# Altium footprint library esp8266.PcbLib: 12 footprints
Each footprint in its own frame and in the unit in brackets; x right, y up, seen from the top. Pads: shape width x height; smd on the part's side, far side on the other; paste and mask are expansions set on the pad; w line width, h text height; cw(c..) or ccw(c..) is an arc to the next point about the centre after c.
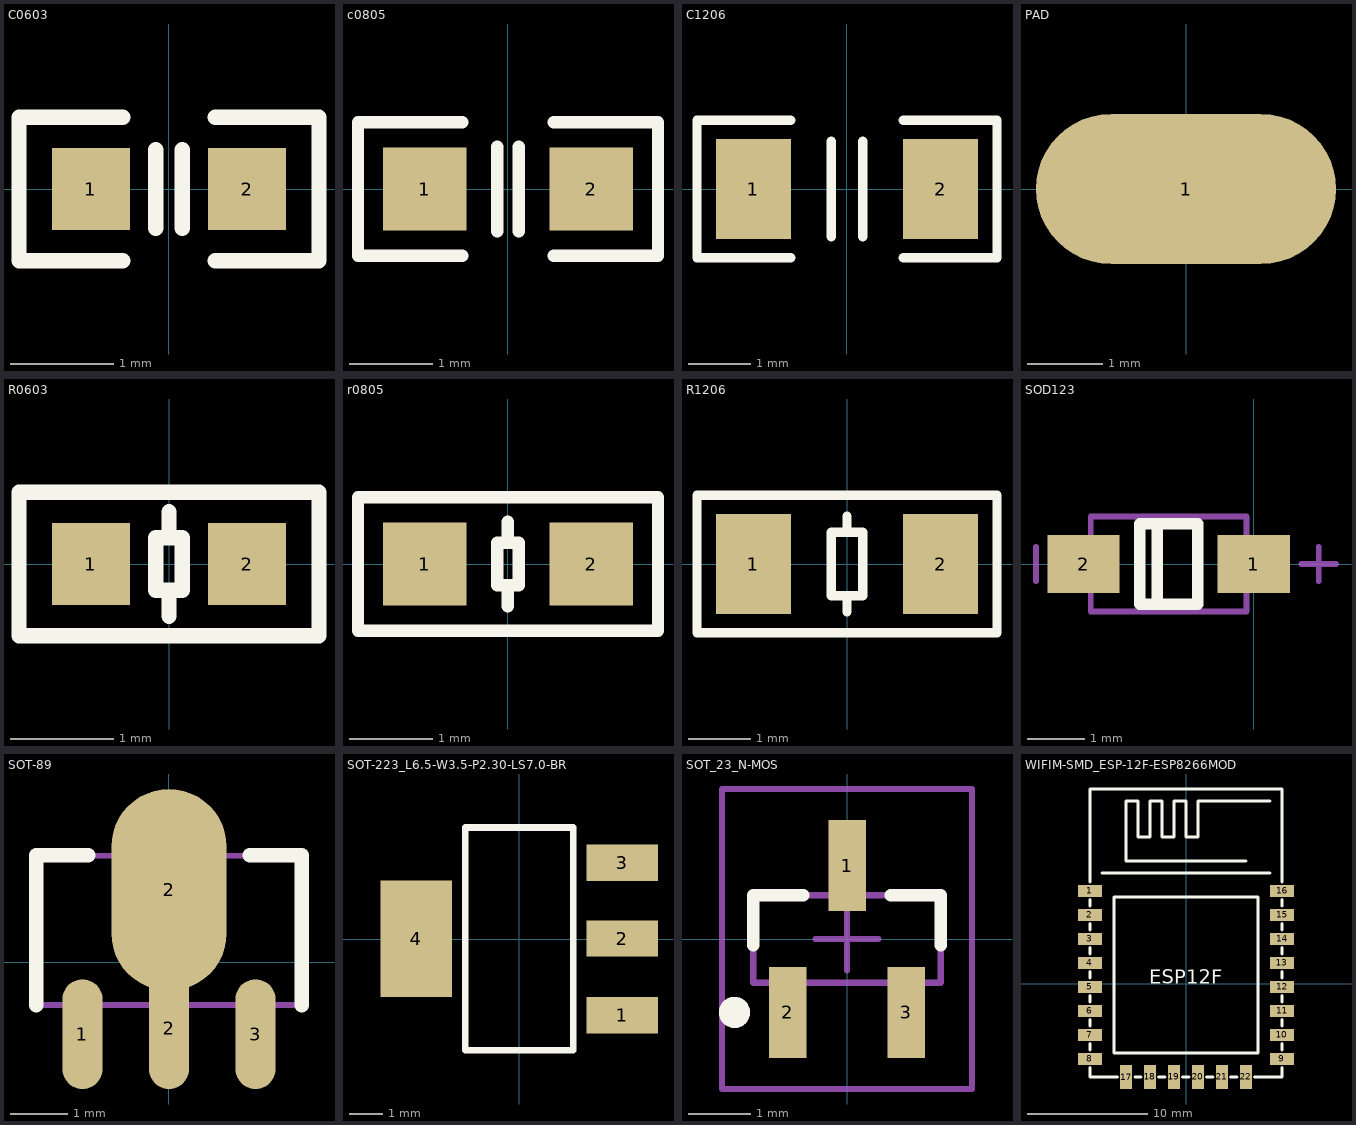
[diagram p0: the footprints below, top view; thin cyan lines are the x and y axes]

## C0603 [mm]
pads (2):
  rect 0.76x0.8 smd: 1(-0.76,0) 2(0.76,0)
Top Overlay:
  lines w0.15: -0.45,-0.7 -1.46,-0.7 -1.46,0.7 -0.45,0.7 ; -0.127,-0.381 -0.127,0.381 ; 0.127,-0.381 0.127,0.381 ; 0.45,-0.7 1.46,-0.7 1.46,0.7 0.45,0.7

## c0805 [mm]
pads (2):
  rect 1x1 smd: 1(-1,0) 2(1,0)
Top Overlay:
  lines w0.15: -0.55,-0.8 -1.8,-0.8 -1.8,0.8 -0.55,0.8 ; -0.127,-0.508 -0.127,0.508 ; 0.127,-0.508 0.127,0.508 ; 0.55,-0.8 1.8,-0.8 1.8,0.8 0.55,0.8

## C1206 [mm]
pads (2):
  rect 1.2x1.6 smd: 1(-1.5,0) 2(1.5,0)
Top Overlay:
  lines w0.15: -0.9,-1.1 -2.4,-1.1 -2.4,1.1 -0.9,1.1 ; -0.254,-0.762 -0.254,0.762 ; 0.254,-0.762 0.254,0.762 ; 0.9,-1.1 2.4,-1.1 2.4,1.1 0.9,1.1

## PAD [mm]
pads (1):
  oval 4x2 smd: 1(0,0)

## R0603 [mm]
pads (2):
  rect 0.76x0.8 smd: 1(-0.76,0) 2(0.76,0)
Top Overlay:
  lines w0.15: 0,-0.508 0,-0.316 ; 0,0.316 0,0.508 ; -1.46,-0.7 1.46,-0.7 1.46,0.7 -1.46,0.7 -1.46,-0.7 ; -0.127,-0.254 -0.127,0.254 0.127,0.254 0.127,-0.254 -0.127,-0.254

## r0805 [mm]
pads (2):
  rect 1x1 smd: 1(-1,0) 2(1,0)
Top Overlay:
  lines w0.15: 0,-0.508 0,-0.316 ; 0,0.316 0,0.508 ; -1.8,-0.8 -1.8,0.8 1.8,0.8 1.8,-0.8 -1.8,-0.8 ; -0.127,-0.254 -0.127,0.254 0.127,0.254 0.127,-0.254 -0.127,-0.254

## R1206 [mm]
pads (2):
  rect 1.2x1.6 smd: 1(-1.5,0) 2(1.5,0)
Top Overlay:
  lines w0.15: 0,-0.762 0,-0.508 ; 0,0.508 0,0.762 ; -2.4,-1.1 2.4,-1.1 2.4,1.1 -2.4,1.1 -2.4,-1.1 ; -0.254,-0.508 -0.254,0.508 0.254,0.508 0.254,-0.508 -0.254,-0.508

## SOD123 [mm]
pads (2):
  rect 1.25x1 smd: 1(0,0) 2(-2.95,0)
Top Overlay:
  lines w0.2: -1.675,-0.7 -1.675,0.7 ; -1.975,-0.7 -0.975,-0.7 -0.975,0.7 -1.975,0.7 -1.975,-0.7
Mechanical 13:
  lines w0.1: -2.825,-0.825 -2.825,0.825 -0.125,0.825 -0.125,-0.825 -2.825,-0.825
Mechanical 15:
  lines w0.1: -3.775,-0.3 -3.775,0.3 ; 0.825,0 1.425,0 ; 1.125,-0.3 1.125,0.3
3D body "SOD123F.STEP": height 1.2, standoff -0.01, extent -3.375,-0.849 0.375,0.85

## SOT-89 [mm]
pads (4):
  oval 0.7x1.9 smd: 1(-1.5,-1.25) 3(1.5,-1.25)
  oval 0.7x2.1 smd: 2(0,-1.15)
  oval 2x3.5 smd: 2(0,1.25)
Top Overlay:
  lines w0.254: -2.3,-0.75 -2.3,1.85 -1.4,1.85 ; 1.4,1.85 2.3,1.85 2.3,-0.75
Mechanical 13:
  lines w0.1: -2.3,-0.745 -2.3,1.845 2.3,1.845 2.3,-0.745 -2.3,-0.745
3D body "SOT-89-3.STEP": height 1.51, standoff 0, extent -2.25,-1.8 2.25,2.5

## SOT-223_L6.5-W3.5-P2.30-LS7.0-BR [mil]
pads (4):
  rect 85x43 smd: 1(122,-90.5) 2(122,0.5) 3(122,90.5)
  rect 85x138 smd: 4(-122,0.5)
Top Overlay:
  lines w7.9: -63.8,-131.7 -63.8,132.1 64.1,132.1 64.1,-131.7 -63.8,-131.7

## SOT_23_N-MOS [mm]
pads (3):
  rect 0.6x1.45 smd: 1(0,1.175) 2(-0.95,-1.175) 3(0.95,-1.175)
Top Overlay:
  circle w0.25: c-1.8,-1.175 r0.125
  lines w0.2: -1.5,-0.1 -1.5,0.7 -0.7,0.7 ; 0.7,0.7 1.5,0.7 1.5,-0.1
Mechanical 13:
  lines w0.1: -1.5,-0.7 1.5,-0.7 1.5,0.7 -1.5,0.7 -1.5,-0.7
Mechanical 15:
  lines w0.1: -0.5,0 0.5,0 ; 0,-0.5 0,0.5 ; -2,-2.4 2,-2.4 2,2.4 -2,2.4 -2,-2.4
3D body: height 1.1, standoff 0, extent -1.5,-0.7 1.5,0.7

## WIFIM-SMD_ESP-12F-ESP8266MOD [mm]
pads (22):
  rect 2x1 smd: 1(-8.002,7.751) 2(-8.002,5.751) 3(-8.002,3.751) 4(-8.002,1.751) 5(-8.002,-0.25) 6(-8.002,-2.25) 7(-8.002,-4.249) 8(-8.001,-6.249) 9(7.999,-6.249) 10(8,-4.249) 11(8.002,-2.25) 12(8.001,-0.25) 13(8,1.751) 14(8.001,3.751) 15(8,5.751) 16(8.001,7.751)
  rect 1x2 smd: 17(-5,-7.751) 18(-3.002,-7.749) 19(-1.003,-7.749) 20(0.998,-7.749) 21(2.997,-7.749) 22(4.997,-7.75)
Top Overlay:
  lines w0.254: -8.002,-6.981 -8.002,-7.749 -5.731,-7.749 ; -8.002,-5.518 -8.002,-4.981 ; -8.002,-3.518 -8.002,-2.981 ; -8.002,-1.518 -8.002,-0.98 ; -8.002,0.482 -8.002,1.02 ; -8.002,2.482 -8.002,3.02 ; -8.002,4.482 -8.002,5.019 ; -8.002,6.482 -8.002,7.019 ; -8.002,8.482 -8.002,16.251 7.998,16.251 7.998,8.482 ; -7.002,9.251 6.998,9.251 ; -4.269,-7.749 -3.733,-7.749 ; -2.271,-7.749 -1.734,-7.749 ; -0.272,-7.749 0.266,-7.749 ; 1.729,-7.749 2.266,-7.749 ; 3.728,-7.749 4.266,-7.749 ; 4.998,10.251 -5.002,10.251 -5.002,15.251 -4.002,15.251 -4.002,12.251 -3.002,12.251 -3.002,15.251 -2.002,15.251 -2.002,12.251 -1.002,12.251 -1.002,15.251 -0.002,15.251 -0.002,12.251 0.998,12.251 0.998,15.251 6.998,15.251 ; 5.728,-7.749 7.998,-7.749 7.998,-6.981 ; 7.998,-5.518 7.998,-4.981 ; 7.998,-3.518 7.998,-2.981 ; 7.998,-1.518 7.998,-0.98 ; 7.998,0.482 7.998,1.02 ; 7.998,2.482 7.998,3.02 ; 7.998,4.482 7.998,5.019 ; 7.998,6.482 7.998,7.019 ; -6.002,-5.749 -6.002,7.251 5.998,7.251 5.998,-5.749 -6.002,-5.749
  text "ESP12F" at -3.048,-0.381 h2.03